# Altium schematic symbol library HLK-PM12.SchLib: 1 symbol
Pins are listed as number, name and electrical type; pins without a type are passive.

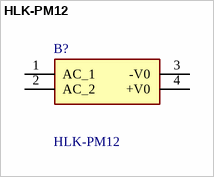
[diagram p0: symbol HLK-PM12]

## HLK-PM12
designator B?
3WUltra-small PowerModule; Manufacturer_Name: Hi-Link; Geometry.Height: 15mm; Manufacturer_Part_Number: HLK-PM12; Mouser Part Number: *; Mouser Price/Stock: *; Arrow Part Number: *; Arrow Price/Stock: *; Datasheet Link: https://static.chipdip.ru/lib/919/DOC012919592.pdf
footprint HLKPM12
pins: 1 AC_1, 2 AC_2, 3 -V0, 4 +V0